# EAGLE library part TI-SN74AHC595D (library eq_Control_Board)
Texas Instruments SN74HC595D Serial-to-Parallel Shift Register, 8 bit with storage register, Tri-state
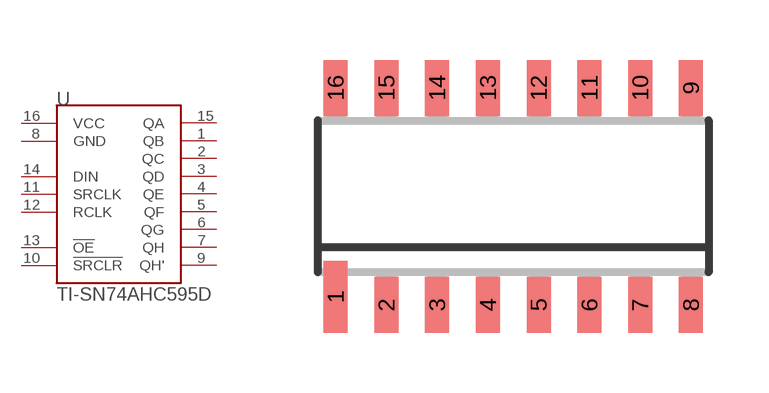
[diagram p3: symbol with the pads of SOIC-16D; footprint SOIC-16D]

Designator prefix -

## TI-SN74AHC595D  [SOIC-16D]
1  QB
2  QC
3  QD
4  QE
5  QF
6  QG
7  QH
8  GND
9  QH'
10  !SRCLR
11  SRCLK
12  RCLK
13  !OE
14  DIN
15  QA
16  VCC

## Footprint SOIC-16D (pad centres in mm)
smd 0.6 x 1.8: 1 -4.445,-2.515
smd 0.6 x 1.4: 2 -3.175,-2.715; 3 -1.905,-2.715; 4 -0.635,-2.715; 5 0.635,-2.715; 6 1.905,-2.715; 7 3.175,-2.715; 8 4.445,-2.715; 9 4.445,2.715; 10 3.175,2.715; 11 1.905,2.715; 12 0.635,2.715; 13 -0.635,2.715; 14 -1.905,2.715; 15 -3.175,2.715; 16 -4.445,2.715